# EAGLE library part ICM7555 (library Arduino Dev Parts)
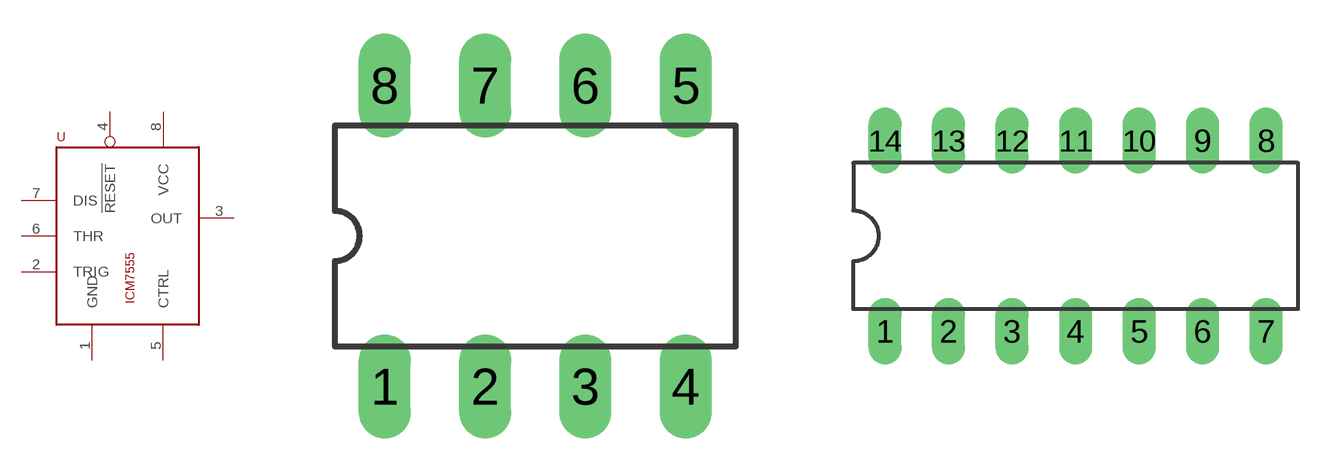
[diagram p4: symbol with the pads of DIL08; footprints DIL08, DIL14]

Designator prefix U

## ICM7555IPA (MF: INTERSIL; MPN: ICM7555IPAZ; OC_FARNELL: 9663762)  [DIL08]
1  GND  pwr
2  TRIG  in
3  OUT  out
4  !RESET  in
5  CTRL  in
6  THR  in
7  DIS  in
8  VCC  pwr

## ICM7555IPD (MF: INTERSIL; MPN: ICM7556IPDZ; OC_FARNELL: 9663770)  [DIL14]
1  DIS  in
2  THR  in
3  CTRL  in
4  !RESET  in
5  OUT  out
6  TRIG  in
7  GND  pwr
8  TRIG  in
9  OUT  out
10  !RESET  in
11  CTRL  in
12  THR  in
13  DIS  in
14  VCC  pwr

## ICM7555IBA (MF: INTERSIL; MPN: ICM7555IBAZ; OC_FARNELL: 9663754)  [SOIC8]
Pads as for DIL08

## Footprint DIL08 (pad centres in mm)
Dual In Line
drill 0.813 long: 1 -3.81,-3.81; 2 -1.27,-3.81; 3 1.27,-3.81; 4 3.81,-3.81; 5 3.81,3.81; 6 1.27,3.81; 7 -1.27,3.81; 8 -3.81,3.81

## Footprint DIL14 (pad centres in mm)
Dual In Line Package
drill 0.813 long: 1 -7.62,-3.81; 2 -5.08,-3.81; 3 -2.54,-3.81; 4 0,-3.81; 5 2.54,-3.81; 6 5.08,-3.81; 7 7.62,-3.81; 8 7.62,3.81; 9 5.08,3.81; 10 2.54,3.81; 11 0,3.81; 12 -2.54,3.81; 13 -5.08,3.81; 14 -7.62,3.81

## Footprint SOIC8 (pad centres in mm)
Wide Plastic Gull Wing Small Outline Package
smd 0.5 x 2.2: 1 -1.905,-3.154; 2 -0.645,-3.154; 3 0.625,-3.154; 4 1.895,-3.154; 5 1.905,3.154; 6 0.635,3.154; 7 -0.635,3.154; 8 -1.905,3.154